# Altium schematic symbol library CustomLLC.SchLib: 1 symbol
Pins are listed as number, name and electrical type; pins without a type are passive.

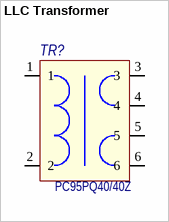
[diagram p0: symbol LLC Transformer]

## LLC Transformer
designator TR?  value PC95PQ40/40Z  (hidden comment: LLC Transformer)
Custom wire-wound resonant transformer
footprint PC95PQ4040Z
pins: 1, 2, 3, 4, 5, 6